# EAGLE library part XBEE2 (library vttay03_custom)
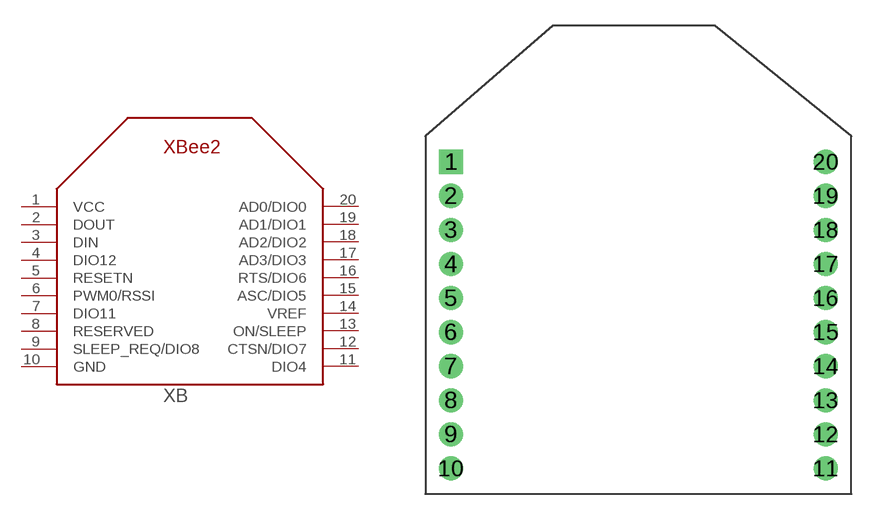
[diagram p0: symbol with the pads of XBEE2; footprint XBEE2]

Designator prefix XB

## XBEE2  [XBEE2]
1  VCC  sup
2  DOUT  out
3  DIN  in
4  DIO12  out
5  RESETN  in
6  PWM0/RSSI  out
7  DIO11  out
8  RESERVED  nc
9  SLEEP_REQ/DIO8  in
10  GND  sup
11  DIO4
12  CTSN/DIO7
13  ON/SLEEP  out
14  VREF  in
15  ASC/DIO5
16  RTS/DIO6
17  AD3/DIO3
18  AD2/DIO2
19  AD1/DIO1
20  AD0/DIO0

## Footprint XBEE2 (pad centres in mm)
drill 0.7 pad 1.422 square: 1 -11,6.77
drill 0.7 pad 1.422: 2 -11,4.77; 3 -11,2.77; 4 -11,0.77; 5 -11,-1.23; 6 -11,-3.23; 7 -11,-5.23; 8 -11,-7.23; 9 -11,-9.23; 10 -11,-11.23; 11 11,-11.23; 12 11,-9.23; 13 11,-7.23; 14 11,-5.23; 15 11,-3.23; 16 11,-1.23; 17 11,0.77; 18 11,2.77; 19 11,4.77; 20 11,6.77